# Altium footprint library resistor-power.PCBLIB: 89 footprints (part 4 of 6)
Each footprint in its own frame and in the unit in brackets; x right, y up, seen from the top. Pads: shape width x height; smd on the part's side, far side on the other; paste and mask are expansions set on the pad; w line width, h text height; cw(c..) or ccw(c..) is an arc to the next point about the centre after c.
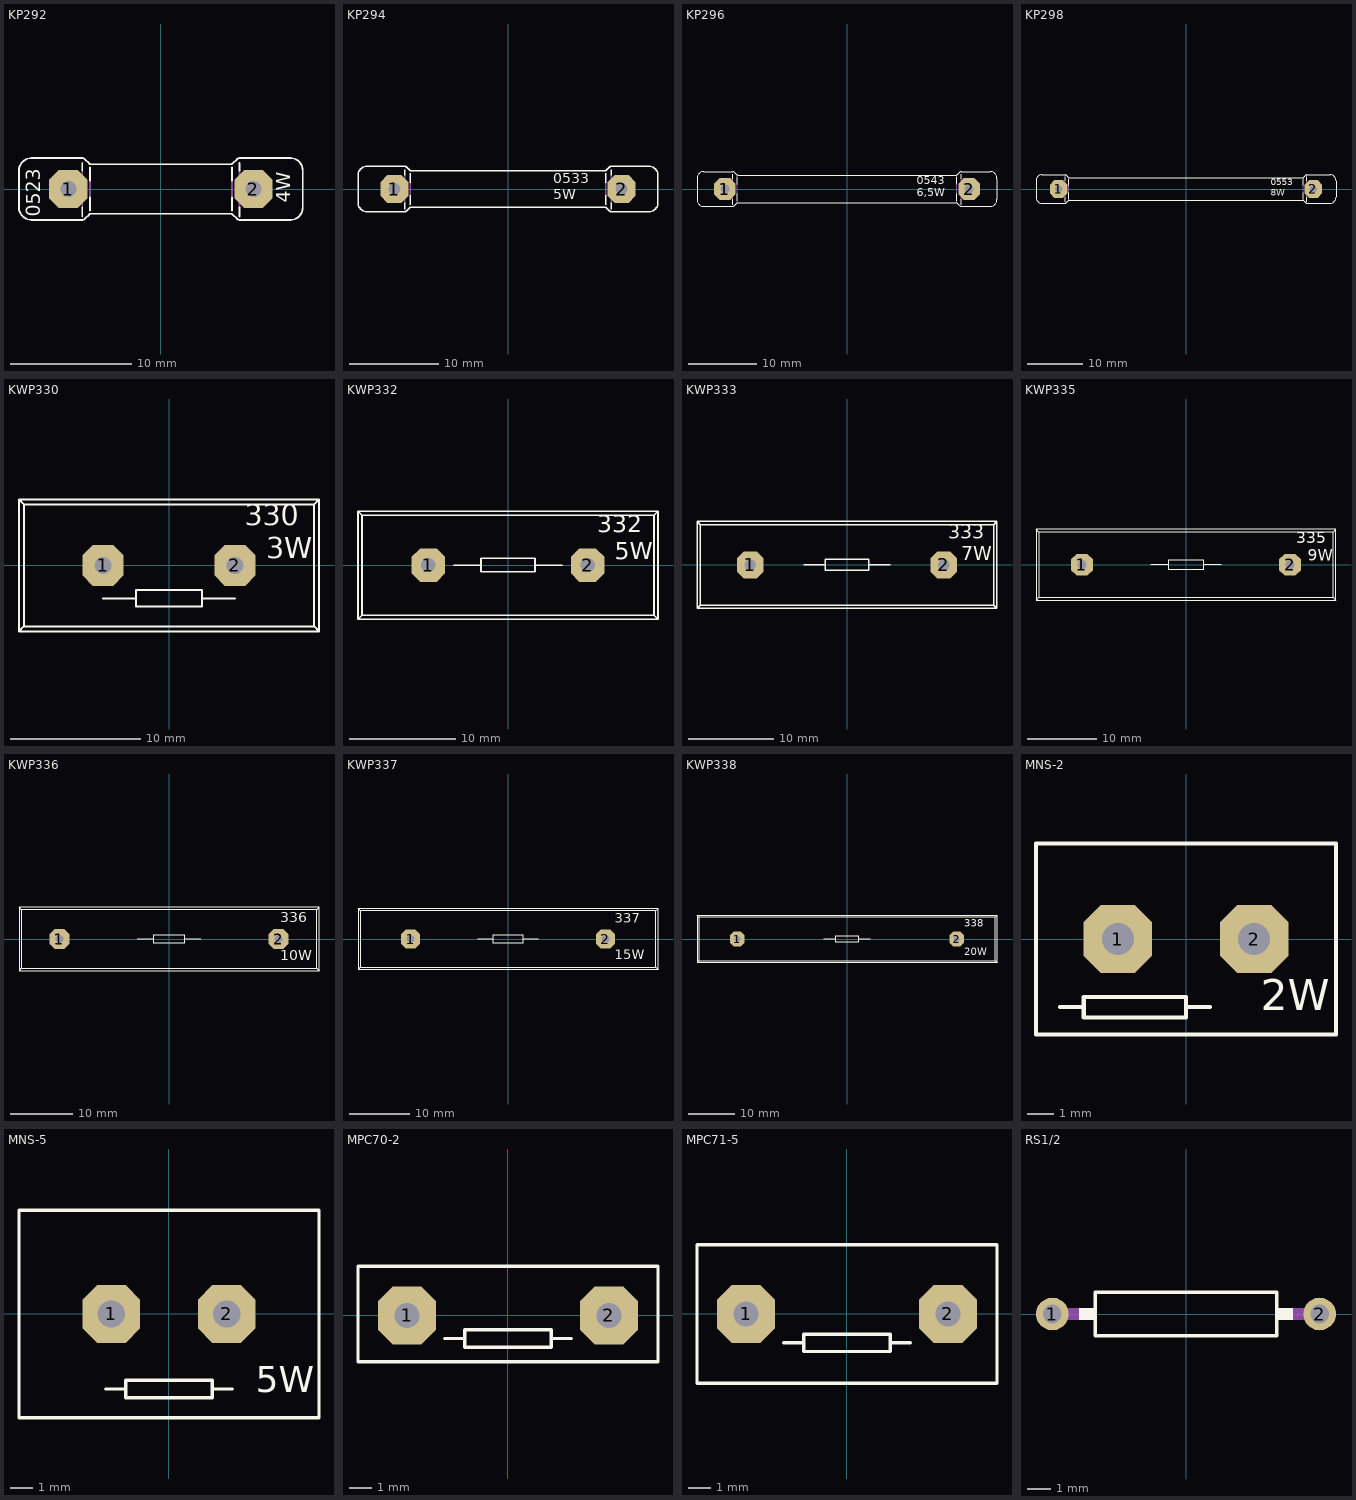
[diagram p3: the footprints below, top view; thin cyan lines are the x and y axes]

## KP292 [mil]
pads (2):
  oct 124x124 hole 52: 1(-300,0) 2(300,0)
Top Overlay:
  lines w6: -255,-90 -255,-60 ; -255,60 -255,85 ; -230,-70 -230,-26.93 ; -230,26.93 -230,70 ; 230,-70 230,-26.93 ; 230,26.93 230,70 ; 255,-90 255,-60 ; 255,60 255,85 ; -460,-60 -460,60 cw(c-420,60) -420,100 -254.14,100 cw(c-254.14,90) -247.07,97.07 -232.93,82.93 ccw(c-225.86,90) -225.86,80 225.86,80 ccw(c225.86,90) 232.93,82.93 247.07,97.07 cw(c254.14,90) 254.14,100 420,100 cw(c420,60) 460,60 460,-60 cw(c420,-60) 420,-100 254.14,-100 cw(c254.14,-90) 247.07,-97.07 232.93,-82.93 ccw(c225.86,-90) 225.86,-80 -225.86,-80 ccw(c-225.86,-90) -232.93,-82.93 -247.07,-97.07 cw(c-254.14,-90) -254.14,-100 -420,-100 cw(c-420,-60) -460,-60
  text "4W" at 435,-45 h77.5
  text "0523" at -375,-90 h77.5
Mechanical 16:
  lines w6: -255,-60 -255,60 ; -230,-26.93 -230,26.93 ; 230,-26.93 230,26.93 ; 255,-60 255,60

## KP294 [mil]
pads (2):
  oct 124x124 hole 52: 1(-500,0) 2(500,0)
Top Overlay:
  lines w6: -455,-90 -455,-60 ; -455,60 -455,85 ; -430,-70 -430,-26.93 ; -430,26.93 -430,70 ; 430,-70 430,-26.93 ; 430,26.93 430,70 ; 455,-90 455,-60 ; 455,60 455,85 ; -660,-60 -660,60 cw(c-620,60) -620,100 -454.14,100 cw(c-454.14,90) -447.07,97.07 -432.93,82.93 ccw(c-425.86,90) -425.86,80 425.86,80 ccw(c425.86,90) 432.93,82.93 447.07,97.07 cw(c454.14,90) 454.14,100 620,100 cw(c620,60) 660,60 660,-60 cw(c620,-60) 620,-100 454.14,-100 cw(c454.14,-90) 447.07,-97.07 432.93,-82.93 ccw(c425.86,-90) 425.86,-80 -425.86,-80 ccw(c-425.86,-90) -432.93,-82.93 -447.07,-97.07 cw(c-454.14,-90) -454.14,-100 -620,-100 cw(c-620,-60) -660,-60
  text "5W" at 200,-60 h77.5
  text "0533" at 200,10 h77.5
Mechanical 16:
  lines w6: -455,-60 -455,60 ; -430,-26.93 -430,26.93 ; 430,-26.93 430,26.93 ; 455,-60 455,60

## KP296 [mil]
pads (2):
  oct 124x124 hole 52: 1(-700,0) 2(700,0)
Top Overlay:
  lines w6: -655,-90 -655,-60 ; -655,60 -655,85 ; -630,-70 -630,-26.93 ; -630,26.93 -630,70 ; 630,-70 630,-26.93 ; 630,26.93 630,70 ; 655,-90 655,-60 ; 655,60 655,85 ; -860,-60 -860,60 cw(c-820,60) -820,100 -654.14,100 cw(c-654.14,90) -647.07,97.07 -632.93,82.93 ccw(c-625.86,90) -625.86,80 625.86,80 ccw(c625.86,90) 632.93,82.93 647.07,97.07 cw(c654.14,90) 654.14,100 820,100 cw(c820,60) 860,60 860,-60 cw(c820,-60) 820,-100 654.14,-100 cw(c654.14,-90) 647.07,-97.07 632.93,-82.93 ccw(c625.86,-90) 625.86,-80 -625.86,-80 ccw(c-625.86,-90) -632.93,-82.93 -647.07,-97.07 cw(c-654.14,-90) -654.14,-100 -820,-100 cw(c-820,-60) -860,-60
  text "6,5W" at 400,-60 h77.5
  text "0543" at 400,10 h77.5
Mechanical 16:
  lines w6: -655,-60 -655,60 ; -630,-26.93 -630,26.93 ; 630,-26.93 630,26.93 ; 655,-60 655,60

## KP298 [mil]
pads (2):
  oct 124x124 hole 52: 1(-900,0) 2(900,0)
Top Overlay:
  lines w6: -855,-90 -855,-60 ; -855,60 -855,85 ; -830,-70 -830,-26.93 ; -830,26.93 -830,70 ; 830,-70 830,-26.93 ; 830,26.93 830,70 ; 855,-90 855,-60 ; 855,60 855,85 ; -1060,-60 -1060,60 cw(c-1020,60) -1020,100 -854.14,100 cw(c-854.14,90) -847.07,97.07 -832.93,82.93 ccw(c-825.86,90) -825.86,80 825.86,80 ccw(c825.86,90) 832.93,82.93 847.07,97.07 cw(c854.14,90) 854.14,100 1020,100 cw(c1020,60) 1060,60 1060,-60 cw(c1020,-60) 1020,-100 854.14,-100 cw(c854.14,-90) 847.07,-97.07 832.93,-82.93 ccw(c825.86,-90) 825.86,-80 -825.86,-80 ccw(c-825.86,-90) -832.93,-82.93 -847.07,-97.07 cw(c-854.14,-90) -854.14,-100 -1020,-100 cw(c-1020,-60) -1060,-60
  text "8W" at 600,-65 h77.5
  text "0553" at 600,10 h77.5
Mechanical 16:
  lines w6: -855,-60 -855,60 ; -830,-26.93 -830,26.93 ; 830,-26.93 830,26.93 ; 855,-60 855,60

## KWP330 [mil]
pads (2):
  oct 124x124 hole 52: 1(-200,0) 2(200,0)
Top Overlay:
  lines w6: -200,-100 -100,-100 ; 200,-100 100,-100 ; -455,-200 -455,200 ; -455,-200 455,-200 ; -455,-200 -440,-185 ; -455,200 455,200 ; -455,200 -440,185 ; -440,-185 -440,185 ; -440,-185 440,-185 ; -440,185 440,185 ; -100,-100 -100,-75 100,-75 100,-100 ; -100,-100 -100,-125 100,-125 100,-100 ; 440,-185 440,185 ; 440,-185 455,-200 ; 440,185 455,200 ; 455,-200 455,200
  text "3W" at 295,0 h108.5
  text "330" at 230,100 h108.5

## KWP332 [mil]
pads (2):
  oct 124x124 hole 52: 1(-295,0) 2(295,0)
Top Overlay:
  lines w6: -200,0 -100,0 ; 200,0 100,0 ; -555,-200 -555,200 ; -555,-200 555,-200 ; -555,-200 -540,-185 ; -555,200 555,200 ; -555,200 -540,185 ; -540,-185 -540,185 ; -540,-185 540,-185 ; -540,185 540,185 ; -100,0 -100,25 100,25 100,0 ; -100,0 -100,-25 100,-25 100,0 ; 540,-185 540,185 ; 540,-185 555,-200 ; 540,185 555,200 ; 555,-200 555,200
  text "5W" at 395,0 h108.5
  text "332" at 330,100 h108.5

## KWP333 [mil]
pads (2):
  oct 124x124 hole 52: 1(-445,0) 2(445,0)
Top Overlay:
  lines w6: -200,0 -100,0 ; 200,0 100,0 ; -690,-200 -690,200 ; -690,-200 690,-200 ; -690,-200 -675,-185 ; -690,200 690,200 ; -690,200 -675,185 ; -675,-185 -675,185 ; -675,-185 675,-185 ; -675,185 675,185 ; -100,0 -100,25 100,25 100,0 ; -100,0 -100,-25 100,-25 100,0 ; 675,-185 675,185 ; 675,-185 690,-200 ; 675,185 690,200 ; 690,-200 690,200
  text "7W" at 525,0 h108.5
  text "333" at 465,100 h108.5

## KWP335 [mil]
pads (2):
  oct 124x124 hole 52: 1(-590,0) 2(590,0)
Top Overlay:
  lines w6: -200,0 -100,0 ; 200,0 100,0 ; -850,-200 -850,200 ; -850,-200 850,-200 ; -850,-200 -835,-185 ; -850,200 850,200 ; -850,200 -835,185 ; -835,-185 -835,185 ; -835,-185 835,-185 ; -835,185 835,185 ; -100,0 -100,25 100,25 100,0 ; -100,0 -100,-25 100,-25 100,0 ; 835,-185 835,185 ; 835,-185 850,-200 ; 835,185 850,200 ; 850,-200 850,200
  text "9W" at 690,0 h108.5
  text "335" at 625,100 h108.5

## KWP336 [mil]
pads (2):
  oct 124x124 hole 52: 1(-690,0) 2(690,0)
Top Overlay:
  lines w6: -200,0 -100,0 ; 200,0 100,0 ; -945,-200 -945,200 ; -945,-200 945,-200 ; -945,-200 -930,-185 ; -945,200 945,200 ; -945,200 -930,185 ; -930,-185 -930,185 ; -930,-185 930,-185 ; -930,185 930,185 ; -100,0 -100,25 100,25 100,0 ; -100,0 -100,-25 100,-25 100,0 ; 930,-185 930,185 ; 930,-185 945,-200 ; 930,185 945,200 ; 945,-200 945,200
  text "10W" at 700,-155 h108.5
  text "336" at 700,85 h108.5

## KWP337 [mil]
pads (2):
  oct 124x124 hole 52: 1(-640,0) 2(640,0)
Top Overlay:
  lines w6: -200,0 -100,0 ; 200,0 100,0 ; -985,-200 -985,200 ; -985,-200 985,-200 ; -985,-200 -970,-185 ; -985,200 985,200 ; -985,200 -970,185 ; -970,-185 -970,185 ; -970,-185 970,-185 ; -970,185 970,185 ; -100,0 -100,25 100,25 100,0 ; -100,0 -100,-25 100,-25 100,0 ; 970,-185 970,185 ; 970,-185 985,-200 ; 970,185 985,200 ; 985,-200 985,200
  text "15W" at 700,-155 h108.5
  text "337" at 700,85 h108.5

## KWP338 [mil]
pads (2):
  oct 124x124 hole 52: 1(-935,0) 2(935,0)
Top Overlay:
  lines w6: -200,0 -100,0 ; 200,0 100,0 ; -1280,-200 -1280,200 ; -1280,-200 1280,-200 ; -1280,-200 -1265,-185 ; -1280,200 1280,200 ; -1280,200 -1265,185 ; -1265,-185 -1265,185 ; -1265,-185 1265,-185 ; -1265,185 1265,185 ; -100,0 -100,25 100,25 100,0 ; -100,0 -100,-25 100,-25 100,0 ; 1265,-185 1265,185 ; 1265,-185 1280,-200 ; 1265,185 1280,200 ; 1280,-200 1280,200
  text "338" at 1000,85 h108.5
  text "20W" at 1000,-160 h108.5

## MNS-2 [mil]
pads (2):
  oct 100x100 hole 47: 1(-100,0) 2(100,0)
Top Overlay:
  lines w6: -185,-100 -150,-100 ; 35,-100 0,-100 ; -150,-100 -150,-85 0,-85 0,-100 ; -150,-100 -150,-115 0,-115 0,-100 ; -220,-140 220,-140 220,140 -220,140 -220,-140
  text "2W" at 110,-120 h77.5

## MNS-5 [mil]
pads (2):
  oct 100x100 hole 47: 1(-100,0) 2(100,0)
Top Overlay:
  lines w6: -110,-130 -75,-130 ; 110,-130 75,-130 ; -75,-130 -75,-115 75,-115 75,-130 ; -75,-130 -75,-145 75,-145 75,-130 ; -260,-180 260,-180 260,180 -260,180 -260,-180
  text "5W" at 150,-150 h77.5

## MPC70-2 [mil]
pads (2):
  oct 100x100 hole 44: 1(-175,0) 2(175,0)
Top Overlay:
  lines w6: -110,-40 -75,-40 ; 110,-40 75,-40 ; -75,-40 -75,-25 75,-25 75,-40 ; -75,-40 -75,-55 75,-55 75,-40 ; -260,-80 260,-80 260,85 -260,85 -260,-80

## MPC71-5 [mil]
pads (2):
  oct 100x100 hole 44: 1(-175,0) 2(175,0)
Top Overlay:
  lines w6: -110,-50 -75,-50 ; 110,-50 75,-50 ; -75,-50 -75,-35 75,-35 75,-50 ; -75,-50 -75,-65 75,-65 75,-50 ; -260,-120 260,-120 260,120 -260,120 -260,-120

## RS1/2 [mil]
pads (2):
  round 55.12 hole 31.5: 1(-225,0) 2(225,0)
Top Overlay:
  rectangle: -180.51,-9.84 -155.71,9.84
  rectangle: 155.71,-9.84 180.51,9.84
  lines w6: -152.76,-36.42 152.76,-36.42 152.76,36.42 -152.76,36.42 -152.76,-36.42
Mechanical 16:
  lines w19.69: -225,0 -180.51,0 ; 177.76,0 225,0